# EAGLE library part AP61300Z6-7 (library AP61300Z6-7)
DCDC Conv LV Buck SOT563 T&R 3K Source: Datasheet <https://componentsearchengine.com/Datasheets/2/AP61300Z6-7.pdf>
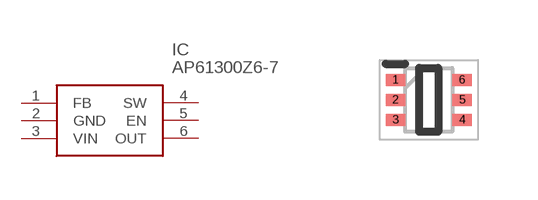
[diagram p0: symbol with the pads of SOTFL50P162X60-6N; footprint SOTFL50P162X60-6N]

Designator prefix IC

## AP61300Z6-7 (Description: DCDC Conv LV Buck SOT563 T&R 3K; Height: 0.6mm; Manufacturer_Name: Diodes Inc.; Manufacturer_Part_Number: AP61300Z6-7; Mouser_Part_Number: 621-AP61300Z6-7; Mouser_Price-Stock: https://www.mouser.co.uk/ProductDetail/Diodes-Incorporated/AP61300Z6-7?qs=HBWAp0VN4Ri0dzb0XP2pEA%3D%3D)  [SOTFL50P162X60-6N]
1  FB
2  GND
3  VIN
4  SW
5  EN
6  OUT

## Footprint SOTFL50P162X60-6N (pad centres in mm)
SOT563
smd 0.492 x 0.3: 1 -0.834,0.5; 2 -0.834,0; 3 -0.834,-0.5; 4 0.834,-0.5; 5 0.834,0; 6 0.834,0.5